# EAGLE library part SATA2_DEVICE (library SATA2)
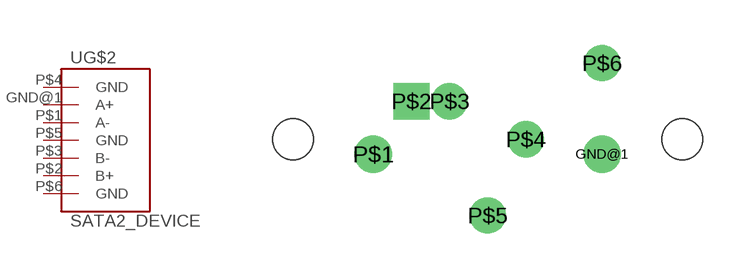
[diagram p0: symbol with the pads of SATA_CONNECTOR_MALE; footprint SATA_CONNECTOR_MALE]

Designator prefix -; gates G$1=SATA2_SYMBOLE G$2=SATA_MALE_SYMBOLE

## SATA2_DEVICE  [SATA_CONNECTOR_MALE]
GND@1  G$2:A+
P$1  G$2:A-
P$2  G$2:B+
P$3  G$2:B-
P$4  G$2:GND
P$5  G$2:GND
P$6  G$2:GND

## Footprint SATA_CONNECTOR_MALE (pad centres in mm)
drill 0.74 pad 0.8: GND@1 3.81,-0.5; P$1 -3.81,-0.5
drill 0.7 square: P$2 -2.54,1.27
drill 0.7 pad 0.8: P$3 -1.27,1.27; P$4 1.27,0; P$5 0,-2.54; P$6 3.81,2.54
hole 1.35 at 6.48,0
hole 1.35 at -6.48,0